# Altium footprint library MUSBRM1C1M0.PcbLib: 1 footprints
Each footprint in its own frame and in the unit in brackets; x right, y up, seen from the top. Pads: shape width x height; smd on the part's side, far side on the other; paste and mask are expansions set on the pad; w line width, h text height; cw(c..) or ccw(c..) is an arc to the next point about the centre after c.
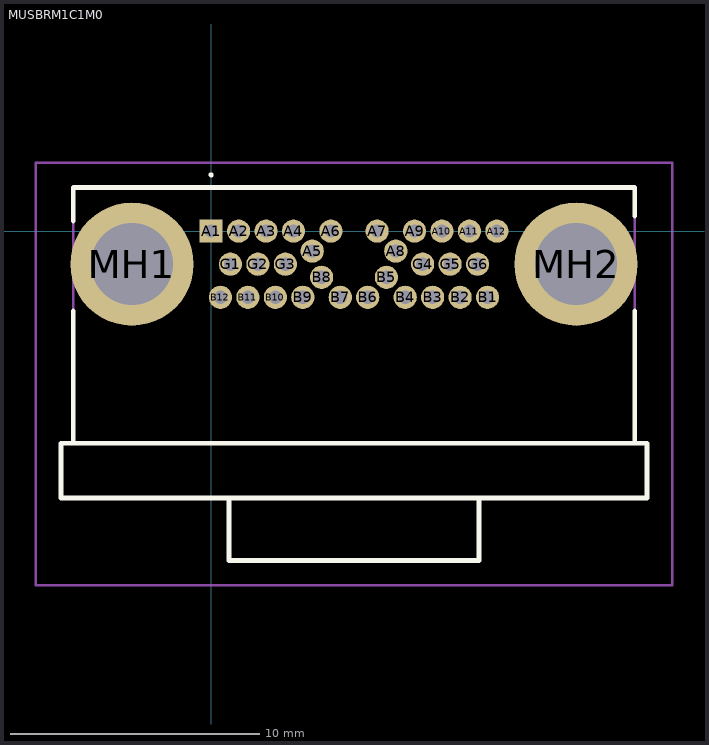
[diagram p0: the footprint, top view; thin cyan lines are the x and y axes]

## MUSBRM1C1M0 [mm]
pads (32):
  rect 0.93x0.93 hole 0.53: A1(0,0)
  round 0.93 hole 0.53: A2(1.1,0) A3(2.2,0) A4(3.3,0) A5(4.05,-0.8) A6(4.8,0) A7(6.65,0) A8(7.4,-0.8) A9(8.15,0) A10(9.25,0) A11(10.35,0) A12(11.45,0) B1(11.075,-2.65) B2(9.975,-2.65) B3(8.875,-2.65) B4(7.775,-2.65) B5(7.025,-1.85) B6(6.275,-2.65) B7(5.175,-2.65) B8(4.425,-1.85) B9(3.675,-2.65) B10(2.575,-2.65) B11(1.475,-2.65) B12(0.375,-2.65) G1(0.775,-1.325) G2(1.875,-1.325) G3(2.975,-1.325) G4(8.475,-1.325) G5(9.575,-1.325) G6(10.675,-1.325)
  round 4.935 hole 3.29: MH1(-3.175,-1.325) MH2(14.625,-1.325)
Top Overlay:
  lines w0.1: 0,2.2 0,2.2 ; 0,2.2 ccw(c0,2.25) 0,2.3 ; 0,2.2 cw(c0,2.25) 0,2.3 ; 0,2.3 0,2.3
  lines w0.2: -5.525,-3.2 -5.525,-8.5 ; -5.525,0.4 -5.525,1.75 16.975,1.75 16.975,0.6 ; 0.725,-10.7 0.725,-13.2 10.725,-13.2 10.725,-10.7 ; 16.975,-3.2 16.975,-8.5 -5.525,-8.5 ; 17,-8.5 17.475,-8.5 17.475,-10.7 -6.025,-10.7 -6.025,-8.5 -5.525,-8.5
Mechanical 15:
  lines w0.1: 0.725,-10.7 0.725,-13.2 10.725,-13.2 10.725,-10.7 ; -5.525,-8.5 16.975,-8.5 ; -5.525,-8.5 -5.525,1.75 16.975,1.75 16.975,-8.5 ; -5.525,-8.5 -6.025,-8.5 -6.025,-10.7 17.475,-10.7 17.475,-8.5 16.975,-8.5
Mechanical 20:
  lines w0.1: -7.025,-14.2 18.475,-14.2 18.475,2.75 -7.025,2.75 -7.025,-14.2